# EAGLE library part MSP430G2553IPW20R (library msp430g2553_tssop20)
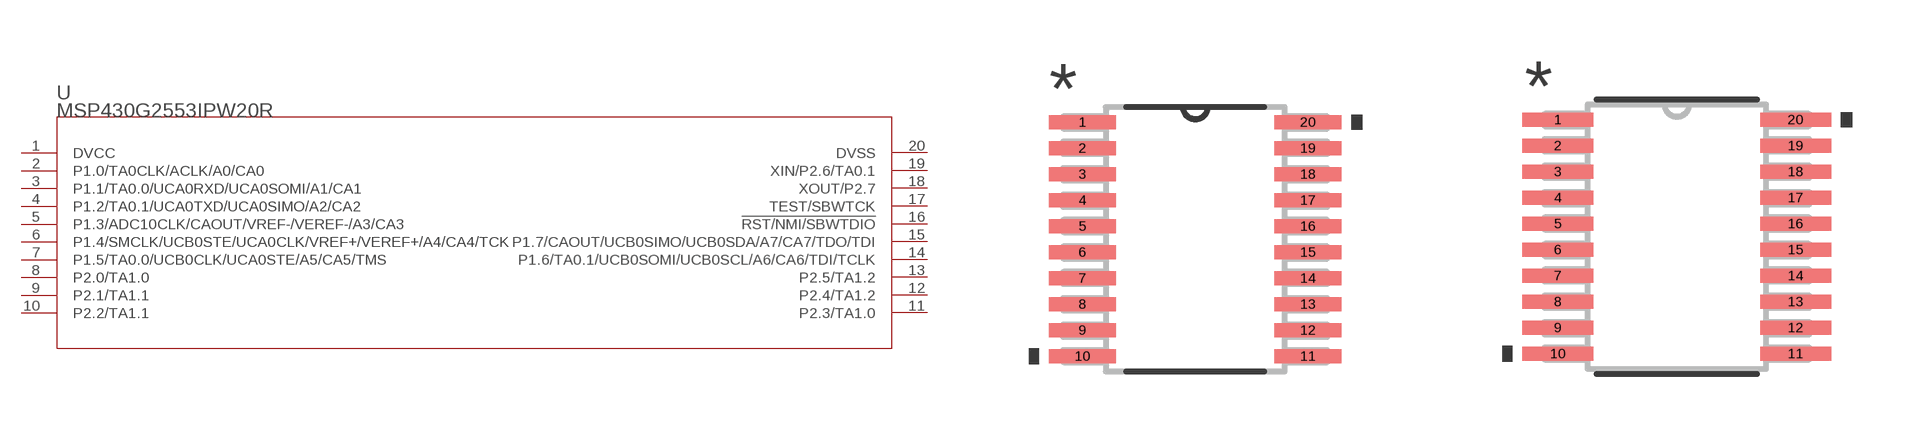
[diagram p0: symbol with the pads of PW20; footprints PW20, PW20-M]

Designator prefix U

## MSP430G2553IPW20R (COPYRIGHT: Copyright (C) 2023 Ultra Librarian. All rights reserved.; MANUFACTURER_PART_NUMBER: MSP430G2553IPW20R; MFR_NAME: Texas Instruments)  [PW20]
1  DVCC  pwr
2  P1.0/TA0CLK/ACLK/A0/CA0
3  P1.1/TA0.0/UCA0RXD/UCA0SOMI/A1/CA1
4  P1.2/TA0.1/UCA0TXD/UCA0SIMO/A2/CA2
5  P1.3/ADC10CLK/CAOUT/VREF-/VEREF-/A3/CA3
6  P1.4/SMCLK/UCB0STE/UCA0CLK/VREF+/VEREF+/A4/CA4/TCK
7  P1.5/TA0.0/UCB0CLK/UCA0STE/A5/CA5/TMS
8  P2.0/TA1.0
9  P2.1/TA1.1
10  P2.2/TA1.1
11  P2.3/TA1.0
12  P2.4/TA1.2
13  P2.5/TA1.2
14  P1.6/TA0.1/UCB0SOMI/UCB0SCL/A6/CA6/TDI/TCLK
15  P1.7/CAOUT/UCB0SIMO/UCB0SDA/A7/CA7/TDO/TDI
16  !RST/NMI/SBWTDIO
17  TEST/SBWTCK
18  XOUT/P2.7
19  XIN/P2.6/TA0.1
20  DVSS  pwr

## MSP430G2553IPW20RPW20-M (COPYRIGHT: Copyright (C) 2023 Ultra Librarian. All rights reserved.; MANUFACTURER_PART_NUMBER: MSP430G2553IPW20R; MFR_NAME: Texas Instruments)  [PW20-M]
Pads as for PW20

## MSP430G2553IPW20RPW20-L (COPYRIGHT: Copyright (C) 2023 Ultra Librarian. All rights reserved.; MANUFACTURER_PART_NUMBER: MSP430G2553IPW20R; MFR_NAME: Texas Instruments)  [PW20-L]
Pads as for PW20

## Footprint PW20 (pad centres in mm)
smd 1.676 x 0.356: 1 -2.819,2.925; 2 -2.819,2.275; 3 -2.819,1.625; 4 -2.819,0.975; 5 -2.819,0.325; 6 -2.819,-0.325; 7 -2.819,-0.975; 8 -2.819,-1.625; 9 -2.819,-2.275; 10 -2.819,-2.925; 11 2.819,-2.925; 12 2.819,-2.275; 13 2.819,-1.625; 14 2.819,-0.975; 15 2.819,-0.325; 16 2.819,0.325; 17 2.819,0.975; 18 2.819,1.625; 19 2.819,2.275; 20 2.819,2.925

## Footprint PW20-M (pad centres in mm)
smd 1.778 x 0.356: 1 -2.972,2.925; 2 -2.972,2.275; 3 -2.972,1.625; 4 -2.972,0.975; 5 -2.972,0.325; 6 -2.972,-0.325; 7 -2.972,-0.975; 8 -2.972,-1.625; 9 -2.972,-2.275; 10 -2.972,-2.925; 11 2.972,-2.925; 12 2.972,-2.275; 13 2.972,-1.625; 14 2.972,-0.975; 15 2.972,-0.325; 16 2.972,0.325; 17 2.972,0.975; 18 2.972,1.625; 19 2.972,2.275; 20 2.972,2.925

## Footprint PW20-L (pad centres in mm)
smd 1.168 x 0.305: 1 -2.87,2.925; 2 -2.87,2.275; 3 -2.87,1.625; 4 -2.87,0.975; 5 -2.87,0.325; 6 -2.87,-0.325; 7 -2.87,-0.975; 8 -2.87,-1.625; 9 -2.87,-2.275; 10 -2.87,-2.925; 11 2.87,-2.925; 12 2.87,-2.275; 13 2.87,-1.625; 14 2.87,-0.975; 15 2.87,-0.325; 16 2.87,0.325; 17 2.87,0.975; 18 2.87,1.625; 19 2.87,2.275; 20 2.87,2.925